# Altium schematic symbol library 1812_Fuse.SchLib: 1 symbol
Pins are listed as number, name and electrical type; pins without a type are passive.

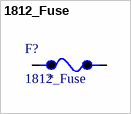
[diagram p0: symbol 1812_Fuse]

## 1812_Fuse
designator F?
1812 Resettable Fuses ROHS; LCSC: *
footprint 1812_Fuse
pins: 1, 2